# Altium footprint library Heat Sink 2 Slots.PcbLib: 1 footprints
Each footprint in its own frame and in the unit in brackets; x right, y up, seen from the top. Pads: shape width x height; smd on the part's side, far side on the other; paste and mask are expansions set on the pad; w line width, h text height; cw(c..) or ccw(c..) is an arc to the next point about the centre after c.
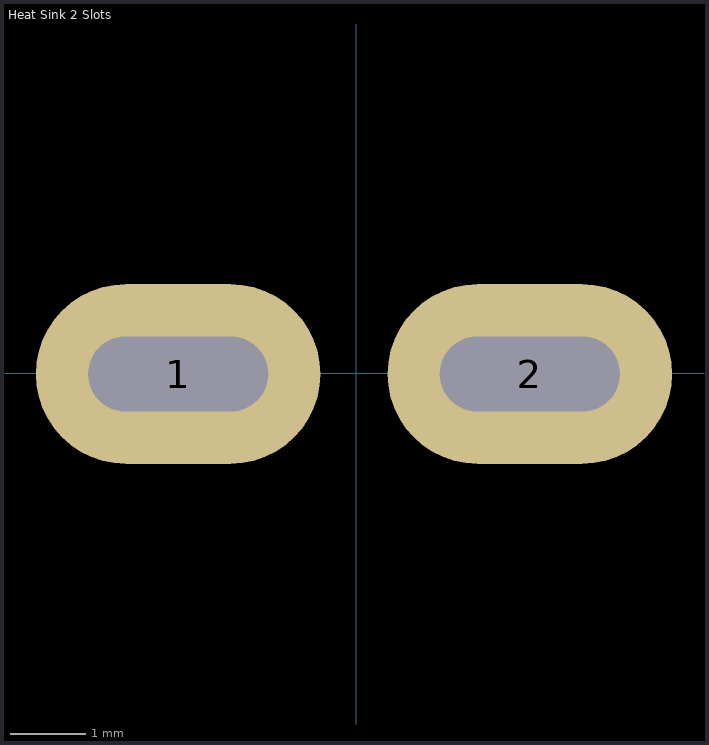
[diagram p0: the footprint, top view; thin cyan lines are the x and y axes]

## Heat Sink 2 Slots [mm]
pads (2):
  oval 3.8x2.4 hole 1 slot 2.4 at 0 deg: 1(-2.375,-0.01) 2(2.321,-0.01)